# Altium schematic symbol library ETC1-1-13.SchLib: 1 symbol
Pins are listed as number, name and electrical type; pins without a type are passive.

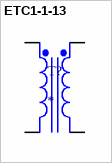
[diagram p0: symbol ETC1-1-13]

## ETC1-1-13
designator T?
E-Series RF 1:1 Transmission Line Transformer; Component1LinkDescription: Datasheet; ComponentLink1URL: http://www.macomtech.com/datasheets/ETC1-1-13.pdf
footprint SOP6
simulation model TRANS (Generic Transformer)
signal-integrity model Transformer (Model Description)
pins: 1 SDOT, 2 NC hidden, 3 SEC, 4 PRI, 5 PDOT